# Altium footprint library XSON-6_1x1.45mm.PcbLib: 1 footprints
Each footprint in its own frame and in the unit in brackets; x right, y up, seen from the top. Pads: shape width x height; smd on the part's side, far side on the other; paste and mask are expansions set on the pad; w line width, h text height; cw(c..) or ccw(c..) is an arc to the next point about the centre after c.
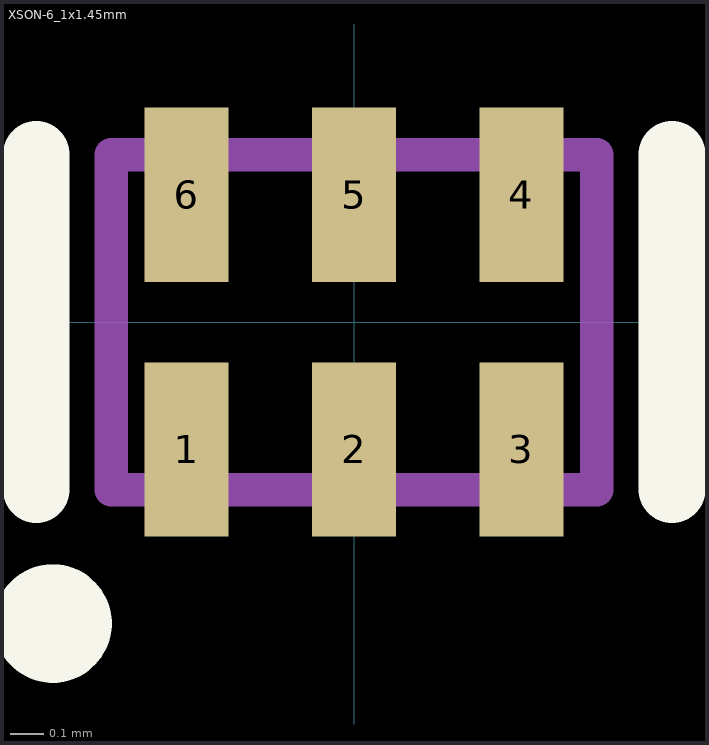
[diagram p0: the footprint, top view; thin cyan lines are the x and y axes]

## XSON-6_1x1.45mm [mm]
pads (6):
  rect 0.25x0.52 smd mask+0.051: 1(-0.5,-0.38) 2(0,-0.38) 3(0.5,-0.38) 4(0.5,0.38) 5(0,0.38) 6(-0.5,0.38)
Top Overlay:
  circle w0.254: c-0.9,-0.9 r0.05
  lines w0.2: -0.95,-0.5 -0.95,0.5 ; 0.95,-0.5 0.95,0.5
Mechanical 13:
  lines w0.1: -0.725,-0.5 0.725,-0.5 0.725,0.5 -0.725,0.5 -0.725,-0.5